# Altium footprint library BigCaps.PcbLib: 1 footprints
Each footprint in its own frame and in the unit in brackets; x right, y up, seen from the top. Pads: shape width x height; smd on the part's side, far side on the other; paste and mask are expansions set on the pad; w line width, h text height; cw(c..) or ccw(c..) is an arc to the next point about the centre after c.
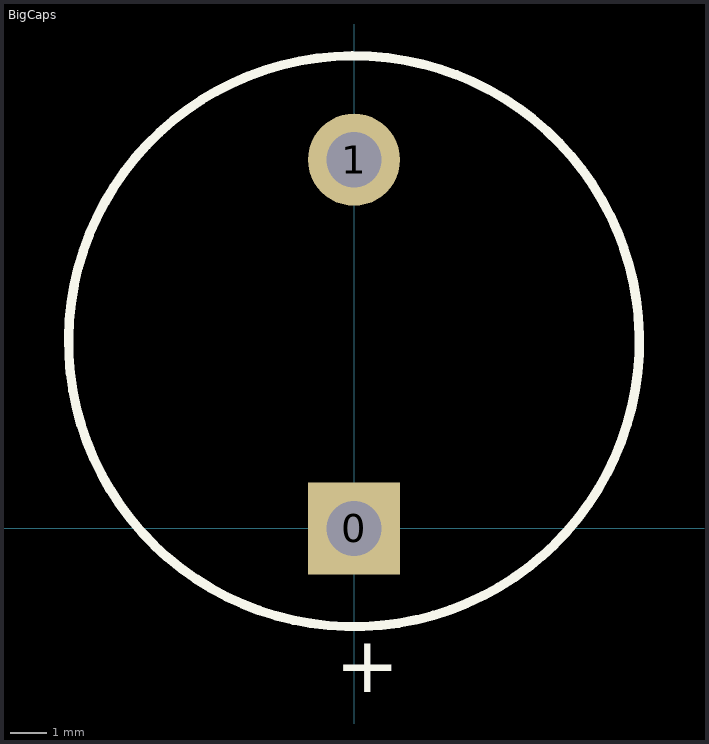
[diagram p0: the footprint, top view; thin cyan lines are the x and y axes]

## BigCaps [mm]
pads (2):
  rect 2.5x2.5 hole 1.5: 0(0,0)
  round 2.5 hole 1.5: 1(0,10.008)
Top Overlay:
  lines w0.254: 7.745,5.256 ccw(c0,5.08) 7.746,5.207
  text "+" at -0.508,-4.445 h1.52